# Altium integrated library HIP4081AIPZ.IntLib: 1 symbol
Pins are listed as number, name and electrical type; pins without a type are passive.

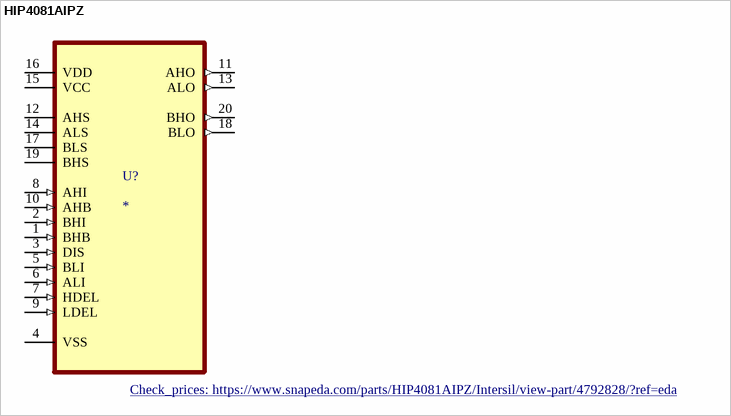
[diagram p0: symbol HIP4081AIPZ]

## HIP4081AIPZ
designator U?
Gate Drivers 80 VDC HI FREQ H-BRDG DRVR W/STA; MP: HIP4081AIPZ; MF: Renesas / Intersil; Availability: Warning; Purchase-URL: https://pricing.snapeda.com/search/part/HIP4081AIPZ/?ref=eda; Package: None; Value: *; SnapEDA_Link: https://www.snapeda.com/parts/HIP4081AIPZ/Intersil/view-part/4792828/?ref=snap; Price: None; Check_prices: https://www.snapeda.com/parts/HIP4081AIPZ/Intersil/view-part/4792828/?ref=eda
footprint DIP254P762X533-20
pins: 1 BHB (in), 2 BHI (in), 3 DIS (in), 4 VSS (power), 5 BLI (in), 6 ALI (in), 7 HDEL (in), 8 AHI (in), 9 LDEL (in), 10 AHB (in), 11 AHO (out), 12 AHS, 13 ALO (out), 14 ALS, 15 VCC (power), 16 VDD (power), 17 BLS, 18 BLO (out), 19 BHS, 20 BHO (out)